# Altium schematic symbol library SS12D07VG4 087.SchLib: 1 symbol
Pins are listed as number, name and electrical type; pins without a type are passive.

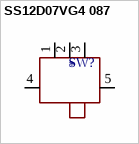
[diagram p0: symbol SS12D07VG4 087]

## SS12D07VG4 087
designator SW?  (value not drawn)
Slide Switches. SS12D07VG4 087; Manufacturer: SHOU HAN(); Component Type: Switches; Design Item ID: SS12D07VG4 087; JLCPCB Part #: C2939726; Manufacturer Part Number: SS12D07VG4 087; Value: *
footprint SS12D07VG4 087 (SW-TH_SS12D07VG4)
pins: 1, 2, 3, 4, 5